# Altium schematic symbol library Components - 29.08.24 - 16.07.SchLib: 1 symbol
Pins are listed as number, name and electrical type; pins without a type are passive.

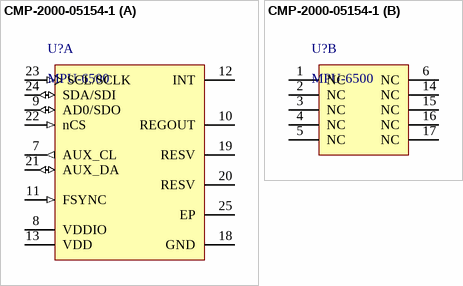
[diagram p0: symbol CMP-2000-05154-1]

## CMP-2000-05154-1
designator U?, comment MPU-6500
3-Axis Gyroscope and 3-Axis Accelerometer Motion Processing Unit with I2C and SPI, 1.71 to 3.45 V, -40 to 85 degC, 24-Pin QFN, RoHS, Tape and Reel; Manufacturer: InvenSense; Online Catalog: MPU-6500Series; Output Type: Digital; Sensor Type: GyroscopeandAccelerometer; Featured Product: InvenSense-MPU-6500Six-Axis(Gyro+Acceleromete)MEMSMotionTrackingDevices; Other Names: 1428-1011-6; Article Library: MCUsasSensorHubs; Series: -; Category: Sensors,Transducers; Dynamic Catalog: MPU-6500Series; Standard Package: 1; Manufacturer URL: http://www.invensense.com/; Family: Multifunction; Datasheet Version: Rev. 1.0, 09/2013; Datasheet URL: https://datasheet.ciiva.com/29175/mpu-6500-spec-29175093.pdf
footprint INSE-MPU-6500-QFN24_N (QFN, 24-Leads, Body 3.1x3.1mm, Pitch 0.4mm, Thermal Pad 1.7X1.54mm, IPC Medium Density)
footprint INSE-MPU-6500-QFN24_L (QFN, 24-Leads, Body 3.1x3.1mm, Pitch 0.4mm, Thermal Pad 1.7X1.54mm, IPC High Density)
footprint INSE-MPU-6500-QFN24_M (QFN, 24-Leads, Body 3.1x3.1mm, Pitch 0.4mm, Thermal Pad 1.7X1.54mm, IPC Low Density)
part A pins: 7 AUX_CL (out) "I2C Master serial clock, for connecting to external sensors", 8 VDDIO (power) "Digital I/O supply voltage", 9 AD0/SDO (io), 10 REGOUT "Regulator filter capacitor connection", 11 FSYNC (in) "Frame synchronization digital input. Connect to GND if unused.", 12 INT (oc) "Interrupt digital output (totem pole or open-drain)", 13 VDD (power) "Power supply voltage and Digital I/O supply voltage", 18 GND (power) "Power supply ground", 19 RESV "Reserved. Do not connect.", 20 RESV (power) "Reserved. Connect to GND.", 21 AUX_DA (io) "I2C master serial data, for connecting to external sensors", 22 nCS (in) "Chip select (SPI mode only)", 23 SCL/SCLK (in), 24 SDA/SDI (io), 25 EP
part B pins: 1 NC "No Connect pins. Do not connect.", 2 NC "No Connect pins. Do not connect.", 3 NC "No Connect pins. Do not connect.", 4 NC "No Connect pins. Do not connect.", 5 NC "No Connect pins. Do not connect.", 6 NC "No Connect pins. Do not connect.", 14 NC "No Connect pins. Do not connect.", 15 NC "No Connect pins. Do not connect.", 16 NC "No Connect pins. Do not connect.", 17 NC "No Connect pins. Do not connect."